# EAGLE library part TLP525G−2 (library myhvac)
2 channel Optocoupler (triac) 8 pin. The TLP525G−2 offers two isolated channels in an eight lead plastic DIP package.
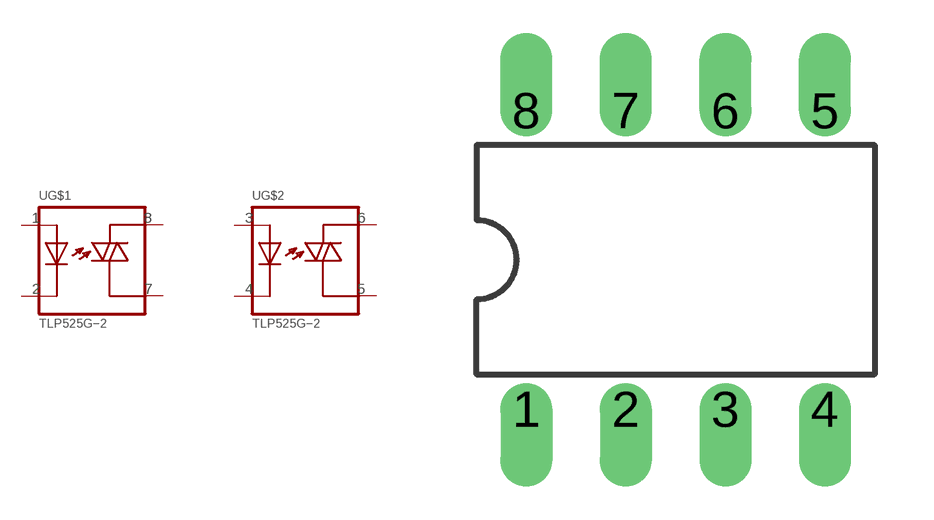
[diagram p1: symbol with the pads of DIL08; footprint DIL08]

Designator prefix -; gates G$1=OPTO-ISO-TRIAC G$2=OPTO-ISO-TRIAC

## TLP525G−2  [DIL08]
1  G$1:ANNODE
2  G$1:CATHODE
3  G$2:ANNODE
4  G$2:CATHODE
5  G$2:T1
6  G$2:T2
7  G$1:T1
8  G$1:T2

## Footprint DIL08 (pad centres in mm)
Dual In Line Package
drill 0.813 offset: 1 -3.81,-3.81; 2 -1.27,-3.81; 3 1.27,-3.81; 4 3.81,-3.81; 5 3.81,3.81; 6 1.27,3.81; 7 -1.27,3.81; 8 -3.81,3.81